# Altium footprint library RL78 DEMOPCB_V1.02.PcbLib: 34 footprints (part 3 of 3)
Each footprint in its own frame and in the unit in brackets; x right, y up, seen from the top. Pads: shape width x height; smd on the part's side, far side on the other; paste and mask are expansions set on the pad; w line width, h text height; cw(c..) or ccw(c..) is an arc to the next point about the centre after c.
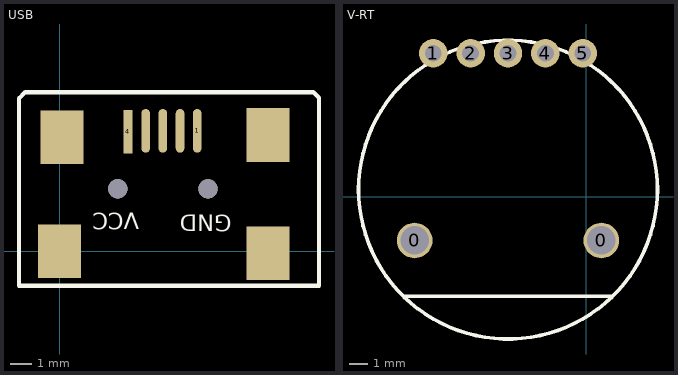
[diagram p2: the footprints below, top view; thin cyan lines are the x and y axes]

## USB [mm]
pads (11):
  oval 0.4x2.032 smd: 1(6.4,5.6) ""(4,5.6) ""(4.8,5.6) ""(5.6,5.6)
  rect 0.4x2.032 smd: 4(3.176,5.552)
  rect 2x2.5 smd: ""(0,0) ""(0.1,5.3) ""(9.7,-0.1) ""(9.7,5.4)
  round 0.9 hole 0.9 unplated: ""(2.7,2.9) ""(6.9,2.9)
Top Overlay:
  lines w0.203: -1.894,-1.618 -1.894,7.106 -1.6,7.4 11.8,7.4 12.066,7.134 12.066,4.732 12.066,-1.618 -1.894,-1.618
  text "VCC" at 3.71,1.787 h0.76
  text "GND" at 8.01,1.687 h0.76
Keep-Out Layer:
  circle w0.025: c6.9,2.9 r0.4
  circle w0.025: c2.7,2.9 r0.4

## V-RT [mil]
pads (7):
  round 75 hole 60: 0(-361.85,-92.34) 0(31.85,-92.34)
  round 60 hole 35.43: 1(-322.48,302.34) 2(-243.74,302.34) 3(-165,302.34) 4(-86.26,302.34) 5(-7.52,302.34)
Top Overlay:
  circle w7.87: c-165,14.94 r314.96
  lines w7.87: -386,-210 53,-210